# Altium schematic symbol library 428192233.SchLib: 2 symbols
Pins are listed as number, name and electrical type; pins without a type are passive.

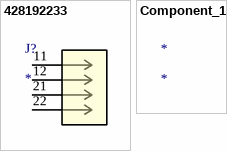
[diagram p0: symbols 428192233 to Component_1]

## 428192233
designator J?
No Description Available; Mfr_Name: Molex Connector Corporation; RefDes: RefDes; Type: Type
footprint CON_428192233
pins: 11, 12, 21, 22

## Component_1
designator *